# EAGLE library part MBT39 (library NPN)
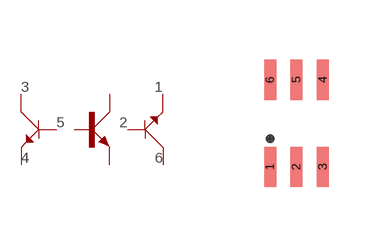
[diagram p0: symbol with the pads of 1234; footprint 1234]

Designator prefix -; gates P=345 B=126

## MBT39  [1234]
1  B:2.1
2  B:2.2
3  P:1.3
4  P:1.4
5  P:1.5
6  B:2.6

## Footprint 1234 (pad centres in mm)
smd 0.3 x 1: 1 -0.66,-1.09; 2 0,-1.09; 3 0.66,-1.09; 4 0.66,1.09; 5 0,1.09; 6 -0.66,1.09